# EAGLE library part TRS3221 (library my_lib)
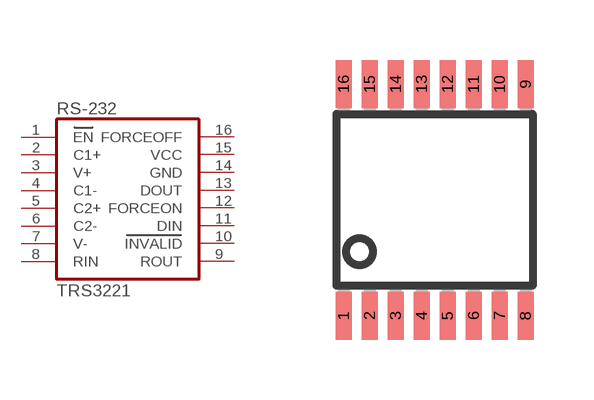
[diagram p2: symbol with the pads of TRS3221; footprint TRS3221]

Designator prefix RS-232

## TRS3221  [TRS3221]
1  EN
2  C1+
3  V+
4  C1-
5  C2+
6  C2-
7  V-
8  RIN
9  ROUT
10  INVALID
11  DIN
12  FORCEON
13  DOUT
14  GND
15  VCC
16  FORCEOFF

## Footprint TRS3221 (pad centres in mm)
smd 0.4 x 1.2: 1 -2.275,-2.9; 2 -1.625,-2.9; 3 -0.975,-2.9; 4 -0.325,-2.9; 5 0.325,-2.9; 6 0.975,-2.9; 7 1.625,-2.9; 8 2.275,-2.9; 9 2.275,2.9; 10 1.625,2.9; 11 0.975,2.9; 12 0.325,2.9; 13 -0.325,2.9; 14 -0.975,2.9; 15 -1.625,2.9; 16 -2.275,2.9